# Altium schematic symbol library HoYLR2512-3W-10mR-1%.SchLib: 1 symbol
Pins are listed as number, name and electrical type; pins without a type are passive.

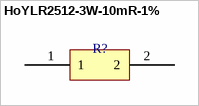
[diagram p0: symbol HoYLR2512-3W-10mR-1%]

## HoYLR2512-3W-10mR-1%
designator R?  (value not drawn)
Resistance: 10mOhm
footprint HoYLR2512-3W-10mR-1%
pins: 1, 2